# Altium footprint library CONNECTOR - USB.PcbLib: 2 footprints
Each footprint in its own frame and in the unit in brackets; x right, y up, seen from the top. Pads: shape width x height; smd on the part's side, far side on the other; paste and mask are expansions set on the pad; w line width, h text height; cw(c..) or ccw(c..) is an arc to the next point about the centre after c.
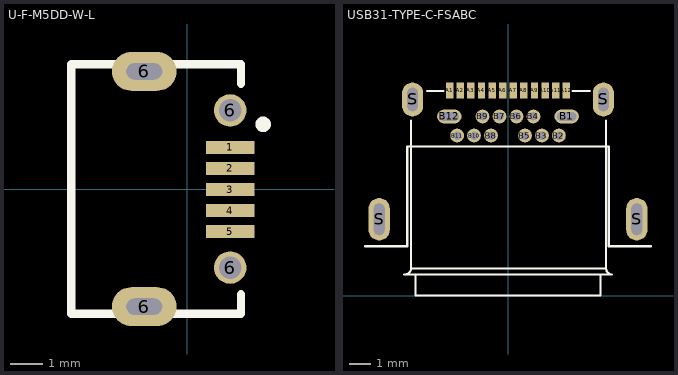
[diagram p0: the footprints below, top view; thin cyan lines are the x and y axes]

## U-F-M5DD-W-L [mm]
height 1.9
pads (9):
  rect 1.5x0.4 smd paste+0 mask+0.076: 1(1.325,1.283) 2(1.325,0.633) 3(1.325,-0.017) 4(1.325,-0.667) 5(1.325,-1.317)
  oval 2x1.2 hole 0.5 slot 1.1 at 0 deg: 6(-1.325,-3.625) 6(-1.325,3.625)
  round 1 hole 0.7: 6(1.325,-2.425) 6(1.325,2.425)
Top Overlay:
  circle w0.254: c2.341,1.994 r0.112
  lines w0.254: 1.655,-3.248 1.655,-3.848 -3.577,-3.848 -3.577,3.848 1.655,3.848 1.655,3.248
3D body "Micro USB-B Female 5Pin SMD.STEP": height 2.72, standoff -1, extent -4.076,-4.025 1.724,4.025

## USB31-TYPE-C-FSABC [mm]
height 4.02
pads (28):
  rect 0.35x0.75 smd: A1(-2.75,9.68) A2(-2.25,9.68) A3(-1.75,9.68) A4(-1.25,9.68) A5(-0.75,9.68) A6(-0.25,9.68) A7(0.25,9.68) A8(0.75,9.68) A9(1.25,9.68) A10(1.75,9.68) A11(2.25,9.68) A12(2.75,9.68)
  oval 1.15x0.65 hole 0.4 slot 0.9 at 0 deg: B1(2.765,8.45) B12(-2.765,8.45)
  round 0.65 hole 0.4: B2(2.4,7.55) B3(1.6,7.55) B4(1.2,8.45) B5(0.8,7.55) B6(0.4,8.45) B7(-0.4,8.45) B8(-0.8,7.55) B9(-1.2,8.45) B10(-1.6,7.55) B11(-2.4,7.55)
  oval 1x2 hole 1.5 slot 0.5 at 0 deg unplated: S(-6.075,3.6) S(6.075,3.6)
  oval 1x1.6 hole 1.1 slot 0.5 at 0 deg unplated: S(-4.5,9.25) S(4.5,9.25)
Top Overlay:
  lines w0.1: -6.75,2.33 -4.75,2.33 ; -4.75,2.33 -4.75,7.03 4.75,7.03 4.75,2.33 6.75,2.33 ; -4.572,8.255 -4.572,1.27 ; -4.37,1 -4.37,0 4.37,0 4.37,1 ; -3.81,9.652 -3.048,9.652 ; 3.048,9.652 3.873,9.653 ; 4.628,8.255 4.628,1.27 ; -4.572,1.27 cw(c-4.871,1.299) -4.9,1 4.9,1 cw(c4.899,1.271) 4.628,1.27 ; -4.572,1.27 4.628,1.27
3D body "USB.STEP": height 3.1, standoff -1.56, extent -6.175,0 6.175,9.65